# Altium footprint library DemoCat.PcbLib: 7 footprints
Each footprint in its own frame and in the unit in brackets; x right, y up, seen from the top. Pads: shape width x height; smd on the part's side, far side on the other; paste and mask are expansions set on the pad; w line width, h text height; cw(c..) or ccw(c..) is an arc to the next point about the centre after c.
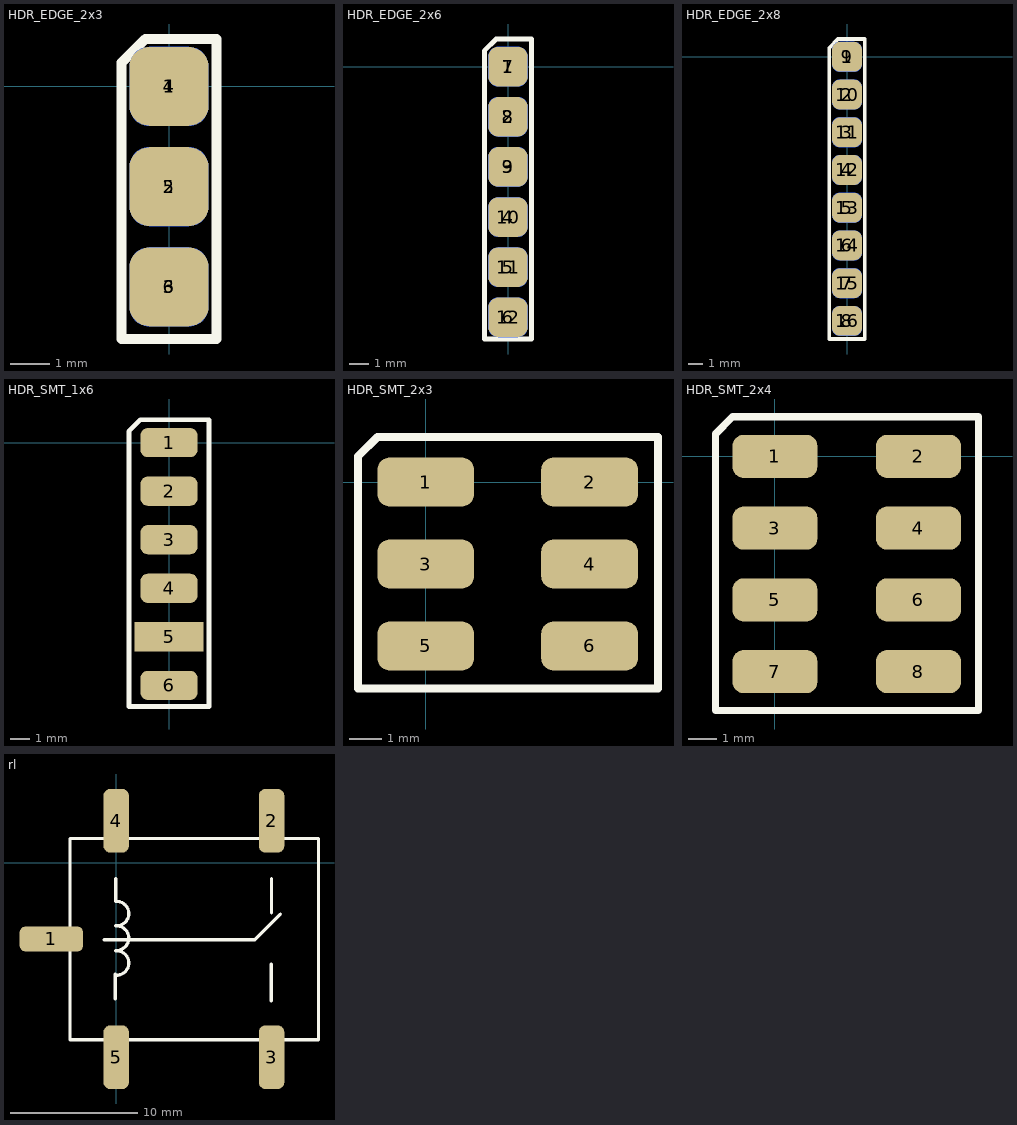
[diagram p0: the footprints below, top view; thin cyan lines are the x and y axes]

## HDR_EDGE_2x3 [mm]
pads (6):
  rrect50% 2x2 smd: 1(0,0) 2(0,-2.54) 3(0,-5.08)
  rrect50% 2x2 smd far side: 4(0,0) 5(0,-2.54) 6(0,-5.08)
Top Overlay:
  lines w0.254: -1.2,-6.4 1.2,-6.4 1.2,1.2 -0.6,1.2 -1.2,0.6 -1.2,-6.4
Bottom Overlay:
  lines w0.254: -1.2,-6.4 1.2,-6.4 1.2,1.2 -0.6,1.2 -1.2,0.6 -1.2,-6.4
3D body "HDR2x3.STEP": height 2.5, standoff -2.5, extent -10.37,-6.3 1.17,1.2

## HDR_EDGE_2x6 [mm]
pads (12):
  rrect50% 2x2 smd: 1(0,0) 2(0,-2.54) 3(0,-5.08) 4(0,-7.62) 5(0,-10.16) 6(0,-12.7)
  rrect50% 2x2 smd far side: 7(0,0) 8(0,-2.54) 9(0,-5.08) 10(0,-7.62) 11(0,-10.16) 12(0,-12.7)
Top Overlay:
  lines w0.254: -1.2,-13.8 1.2,-13.8 1.2,1.4 0,1.4 -0.6,1.4 -1.2,0.8 -1.2,-13.8
Bottom Overlay:
  lines w0.254: -1.2,-13.8 -1.2,0.8 -0.6,1.4 0,1.4 1.2,1.4 1.2,-13.8 -1.2,-13.8
3D body "HDR2x6.STEP": height 2.5, standoff -2.5, extent -10.34,-13.7 1.2,1.3

## HDR_EDGE_2x8 [mm]
pads (16):
  rrect50% 2x2 smd: 1(0,0) 2(0,-2.54) 3(0,-5.08) 4(0,-7.62) 5(0,-10.16) 6(0,-12.7) 7(0,-15.24) 8(0,-17.78)
  rrect50% 2x2 smd far side: 9(0,0) 10(0,-2.54) 11(0,-5.08) 12(0,-7.62) 13(0,-10.16) 14(0,-12.7) 15(0,-15.24) 16(0,-17.78)
Top Overlay:
  lines w0.254: -1.2,-19 -1.2,0.4 -1.2,0.6 -0.6,1.2 1.2,1.2 1.2,-19 -1.2,-19
Bottom Overlay:
  lines w0.254: -1.2,-19 -1.2,0.4 -1.2,0.6 -0.6,1.2 1.2,1.2 1.2,-19 -1.2,-19
3D body "HDR2x8.STEP": height 2.5, standoff -2.5, extent -10.34,-18.8 1.2,1.2

## HDR_SMT_1x6 [mm]
pads (6):
  rrect50% 3x1.524 smd: 1(0,0) 2(0,-2.54) 3(0,-5.08) 4(0,-7.62) 6(0,-12.7)
  rect 3.6x1.524 smd: 5(0,-10.16)
Top Overlay:
  lines w0.254: -2.1,-13.8 -2.1,0.6 -1.5,1.2 0,1.2 2.1,1.2 2.1,-13.8 -2.1,-13.8

## HDR_SMT_2x3 [mm]
pads (6):
  rrect50% 3x1.524 smd: 1(0,0) 2(5.08,0) 3(0,-2.54) 4(5.08,-2.54) 5(0,-5.08) 6(5.08,-5.08)
Top Overlay:
  lines w0.254: -2.1,-6.4 -2.1,0.8 -1.5,1.4 0,1.4 5.1,1.4 7.2,1.4 7.2,-6.4 3.3,-6.4 -2.1,-6.4

## HDR_SMT_2x4 [mm]
pads (8):
  rrect50% 3x1.524 smd: 1(0,0) 2(5.08,0) 3(0,-2.54) 4(5.08,-2.54) 5(0,-5.08) 6(5.08,-5.08) 7(0,-7.62) 8(5.08,-7.62)
Top Overlay:
  lines w0.254: -2.1,-9 -2.1,-6.4 -2.1,0.8 -1.5,1.4 0,1.4 5.1,1.4 7.2,1.4 7.2,-6.4 7.2,-9 3.3,-9 -2.1,-9

## rl [mm]
pads (5):
  rrect50% 5x2 smd: 1(-5.1,-6)
  rrect50% 2x5 smd: 2(12.217,3.3) 3(12.217,-15.3) 4(0,3.3) 5(0,-15.3)
Top Overlay:
  lines w0.254: -0.965,-6.058 10.897,-6.058 12.916,-4.039 ; -0.076,-10.706 -0.076,-8.776 ; -0.051,-8.852 ccw(c0.021,-7.887) -0.04,-6.922 ; -0.051,-6.896 ccw(c0.021,-5.932) -0.04,-4.966 ; -0.051,-4.966 ccw(c0.021,-4.001) -0.04,-3.036 -0.04,-1.243 ; 12.192,-10.884 12.192,-7.988 ; 12.217,-3.95 12.217,-1.257 ; -3.632,-13.919 15.9,-13.919 15.9,1.905 -3.632,1.905 -3.632,-13.919
3D body "User Library-SONGLE Relay SRU-12VDC-SL-C.step": height 15.3, standoff -5, extent -3.403,-13.906 15.697,1.594